# Altium schematic symbol library esd_library.SchLib: 20 symbols
Pins are listed as number, name and electrical type; pins without a type are passive.

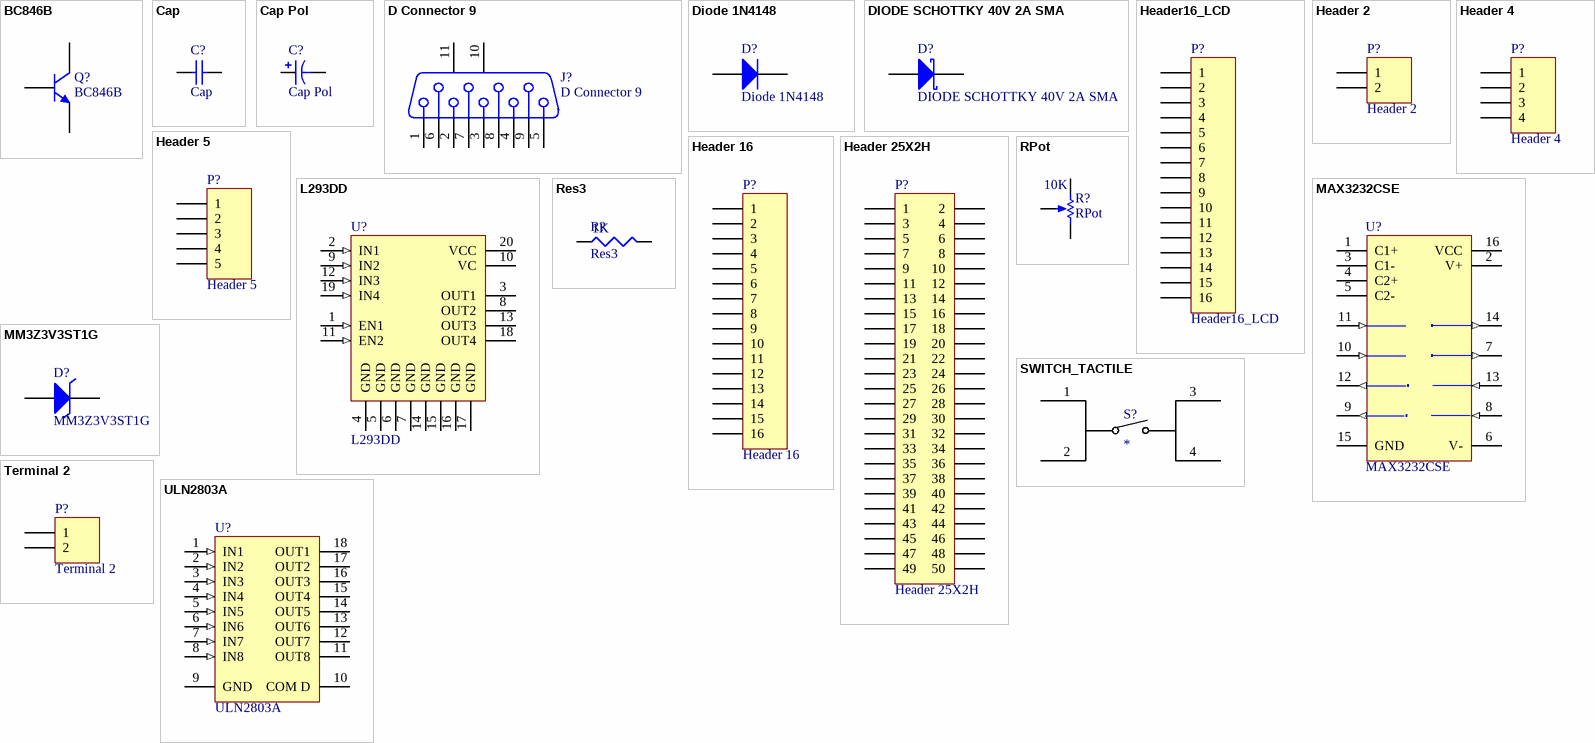
[diagram p0: symbols BC846B to ULN2803A]

## BC846B
designator Q?
NPN General Purpose Amplifier; PN: 568-1632-1-ND; URL: http://www.digikey.ca/product-detail/en/BC846B,215/568-1632-1-ND/763459
footprint SOT95P230X110-3M (SOT23, 3-Leads, Body 2.90x2.30mm, Pitch 0.95mm, IPC Low Density)
pins: 1 B, 2 E, 3 C

## Cap
designator C?
Capacitor
footprint CAPC2012X09M (Chip Capacitor, 2-Leads, Body 2.00x1.25mm, IPC Low Density)
pins: 1, 2

## Cap Pol
designator C?
Polarized Capacitor
pins: 1, 2
1 alternate drawing of the same symbol

## D Connector 9
designator J?
Receptacle Assembly, 9 Position, Right Angle; PN: AE10921-ND; URL: http://www.digikey.ca/product-detail/en/ADF09A-KG-TASB3-R/AE10921-ND/1241800
footprint DSUB1.385-2H9 (Connector; D Subminiature; 9 Position; Right Angle; Pitch 1.385 mm)
signal-integrity model Connector
pins: 1, 2, 3, 4, 5, 6, 7, 8, 9, 10 MH1, 11 MH2

## Diode 1N4148
designator D?
High Conductance Fast Diode; PN: 1N4148WXTPMSCT-ND; URL: http://www.digikey.ca/product-detail/en/1N4148WX-TP/1N4148WXTPMSCT-ND/717312
signal-integrity model 1N4148
footprint zener_sod323
pins: A, K

## DIODE SCHOTTKY 40V 2A SMA
designator D?
Schottky Rectifier; MPN: B240A-13-F; PN: B240A-FDICT-ND; URL: http://www.digikey.ca/product-detail/en/B240A-13-F/B240A-FDICT-ND
footprint DIOM4326X23M (Molded Diode, 2-Leads, Body 4.30x2.60mm, IPC Low Density)
pins: 1 K, 2 A

## Header16_LCD
designator P?
Header, 16-Pin Female; PN: S7049-ND; URL: http://www.digikey.ca/product-detail/en/PPPC161LFBN-RC/S7049-ND/810188
signal-integrity model Connector
footprint HDR1X16_LCD (Connector; Header; 16 Position, For LCD)
pins: 1, 2, 3, 4, 5, 6, 7, 8, 9, 10, 11, 12, 13, 14, 15, 16

## Header 2
designator P?
Header, 2-Pin; PN: S1212E-02-ND; URL: http://www.digikey.ca/product-detail/en/PEC04SFAN/S1212E-02-ND
footprint HDR1X2 (Connector; Header; 2 Position)
signal-integrity model Connector
pins: 1, 2

## Header 4
designator P?
Header, 4-Pin; PN: S1212E-04-ND; URL: http://www.digikey.ca/product-detail/en/PEC04SFAN/S1212E-04-ND/859445
footprint HDR1X4 (Connector; Header; 4 Position)
signal-integrity model Connector
pins: 1, 2, 3, 4

## Header 5
designator P?
Header, 5-Pin; PN: S1212E-05-ND; URL: http://www.digikey.ca/product-detail/en/PEC05SFAN/S1212E-05-ND/859446
footprint HDR1X5 (Connector; Header; 5 Position)
signal-integrity model Connector
pins: 1, 2, 3, 4, 5

## Header 16
designator P?
Header, 16-Pin Female; PN: S7049-ND; URL: http://www.digikey.ca/product-detail/en/PPPC161LFBN-RC/S7049-ND/810188
footprint HDR1X16 (Connector; Header; 16 Position)
signal-integrity model Connector
pins: 1, 2, 3, 4, 5, 6, 7, 8, 9, 10, 11, 12, 13, 14, 15, 16

## Header 25X2H
designator P?
Header, 25-Pin, Dual row, female; PN: S7128-ND; URL: http://www.digikey.ca/product-detail/en/PPPC252LFBN-RC/S7128-ND/810264
signal-integrity model Connector
footprint PPPC252LFBN-RC (Connector; Header; 25x2 Position, Large pads)
pins: 1, 2, 3, 4, 5, 6, 7, 8, 9, 10, 11, 12, 13, 14, 15, 16, 17, 18, 19, 20, 21, 22, 23, 24, 25, 26, 27, 28, 29, 30, 31, 32, 33, 34, 35, 36, 37, 38, 39, 40, 41, 42, 43, 44, 45, 46, 47, 48, 49, 50

## L293DD
designator U?
Push-Pull Four Channel Driver With Diode; PN: 497-2937-1-ND; Published: 8-Jun-2000; LatestRevisionDate: 13-Apr-2006; LatestRevisionNote: IPC-7351 Footprint Added.; DatasheetVersion: Jun-1996; PackageVersion: Jul-2001; PackageReference: SO20; Publisher: Altium Limited; PackageDescription: 20-Pin Plastic Small Outline Integrated Circuit 1.27 mm Pitch; Code_JEDEC: MS-013-AC; Code_IPC: SOIC127P1030-20; ComponentLink1Description: Manufacturer Link; ComponentLink1URL: http://www.st.com/; ComponentLink2Description: Datasheet; ComponentLink2URL: http://www.st.com/stonline/products/literature/ds/1330/l293d.pdf; URL: http://www.digikey.ca/product-detail/en/L293DD013TR/497-2937-1-ND/634902
footprint SO20_N (SOIC, 20-Leads, Body 12.8x7.5mm, Pitch 1.27mm, IPC Medium Density)
footprint SO20_L (SOIC, 20-Leads, Body 12.8x7.5mm, Pitch 1.27mm, IPC High Density)
footprint SO20_M (SOIC, 20-Leads, Body 12.8x7.5mm, Pitch 1.27mm, IPC Low Density)
3D model SO20 (PCB3D Model)
pins: 1 EN1 (in), 2 IN1 (in), 3 OUT1 (hiz), 4 GND (power), 5 GND (power), 6 GND (power), 7 GND (power), 8 OUT2 (hiz), 9 IN2 (in), 10 VC (power), 11 EN2 (in), 12 IN3 (in), 13 OUT3 (hiz), 14 GND (power), 15 GND (power), 16 GND (power), 17 GND (power), 18 OUT4 (hiz), 19 IN4 (in), 20 VCC (power)

## MAX3232CSE
designator U?
3.0V TO 5.5V, Low-Power, up to 1Mbps, True RS-232 Transceiver Using Four 0.1µF External Capacitor; PN: MAX3232CSE+-ND; Published: 16-Jan-2001; LatestRevisionDate: 13-Apr-2006; LatestRevisionNote: IPC-7351 Footprint Added.; DatasheetVersion: Mar-1999; PackageReference: NSO16; Publisher: Altium Limited; PackageDescription: 16-Pin Small Outline Integrated Circuit 1.27 mm Pitch; Code_JEDEC: MS-012-AC; Code_IPC: SOIC127P600-16; ComponentLink1Description: Manufacturer Link; ComponentLink1URL: http://www.maxim-ic.com/; ComponentLink2Description: Datasheet; ComponentLink2URL: http://pdfserv.maxim-ic.com/en/ds/MAX3222-MAX3241.pdf; URL: http://www.digikey.ca/product-detail/en/MAX3232CSE%2B/MAX3232CSE%2B-ND/947902
footprint NSO16_N (SOIC, 16-Leads, Body 9.9x3.9mm, Pitch 1.27mm, IPC Medium Density)
footprint NSO16_L (SOIC, 16-Leads, Body 9.9x3.9mm, Pitch 1.27mm, IPC High Density)
footprint NSO16_M (SOIC, 16-Leads, Body 9.9x3.9mm, Pitch 1.27mm, IPC Low Density)
3D model NSO16 (PCB3D Model)
pins: 1 C1+, 2 V+ (power), 3 C1-, 4 C2+, 5 C2-, 6 V- (power), 7 T2OUT (out), 8 R2IN (in), 9 R2OUT (out), 10 T2IN (in), 11 T1IN (in), 12 R1OUT (out), 13 R1IN (in), 14 T1OUT (out), 15 GND (power), 16 VCC (power)

## MM3Z3V3ST1G
designator D?
3.3V, 200mw Zener; PN: MM3Z3V3ST1GOSCT-ND; URL: http://www.digikey.ca/product-detail/en/MM3Z3V3ST1G/MM3Z3V3ST1GOSCT-ND/2705113
signal-integrity model Diode
footprint zener_sod323
pins: A, K

## Res3
designator R?  value 1K
Resistor
footprint RESC2112X05M (Chip Resistor, 2-Leads, Body 2.05x1.25mm, IPC Low Density)
pins: 1, 2

## RPot
designator R?  value 10K
Potentiometer; Sim Note: Enter the Resistance value and the set point into parameter fields.; Set Position: 0.5; PN: 3352T-103LF-ND; Published: 8-Jun-2000; LatestRevisionDate: 17-Jul-2002; LatestRevisionNote: Re-released for DXP Platform.; PackageReference: VR5; Publisher: Altium Limited; PackageDescription: Variable Resistor, Thru-Hole; 3 Leads; URL: http://www.digikey.ca/product-detail/en/3352T-1-103LF/3352T-103LF-ND/1088341
footprint BOURNS_3386F (Top Adjust Trimpot)
pins: 1 TOP, 2 TAP, 3 BOT
1 alternate drawing of the same symbol

## SWITCH_TACTILE
designator S?
SWITCH TACTILE SPST-NO 0.05A 12V; MPN: PTS645SH50SMTR92 LFS; PN: CKN9085CT-ND; URL: http://www.digikey.ca/product-detail/en/PTS645SH50SMTR92%20LFS/CKN9085CT-ND
pins: 1, 2, 3, 4

## Terminal 2
designator P?
Terminal, 2-Pin; PN: A98342-ND; LatestRevisionDate: 17-Jul-2002; LatestRevisionNote: Re-released for DXP Platform.; Publisher: Altium Limited; URL: http://www.digikey.ca/product-detail/en/282841-2/A98342-ND/1136740
signal-integrity model Connector
footprint TYCO_282841_2
pins: 1, 2

## ULN2803A
designator U?
Eight Darlington Array; PN: ULN2803AFWGCELCT-ND; Published: 8-Jun-2000; LatestRevisionDate: 06-Jun-2005; LatestRevisionNote: Stylized 3D Model Added.; DatasheetVersion: Sep-1997; PackageReference: DIP18; Publisher: Altium Limited; PackageDescription: DIP; 18 Leads; Row Spacing 7.62 mm; Pitch 2.54 mm; ComponentLink1Description: Manufacturer Link; ComponentLink1URL: http://www.st.com/; ComponentLink2Description: Datasheet; ComponentLink2URL: http://www.st.com/stonline/products/literature/ds/1536/uln2801a.pdf; URL: http://www.digikey.ca/product-detail/en/ULN2803AFWG,C,EL/ULN2803AFWGCELCT-ND/2183710
footprint SOIC127P1030X260-18M (SOIC, 18-Leads, Body 11.51x7.50mm, Pitch 1.27mm, IPC Low Density)
pins: 1 IN1 (in), 2 IN2 (in), 3 IN3 (in), 4 IN4 (in), 5 IN5 (in), 6 IN6 (in), 7 IN7 (in), 8 IN8 (in), 9 GND (power), 10 COM D, 11 OUT8 (oc), 12 OUT7 (oc), 13 OUT6 (oc), 14 OUT5 (oc), 15 OUT4 (oc), 16 OUT3 (oc), 17 OUT2 (oc), 18 OUT1 (oc)